# Altium schematic symbol library MPU6050_SCHLIB.SchLib: 12 symbols
Pins are listed as number, name and electrical type; pins without a type are passive.

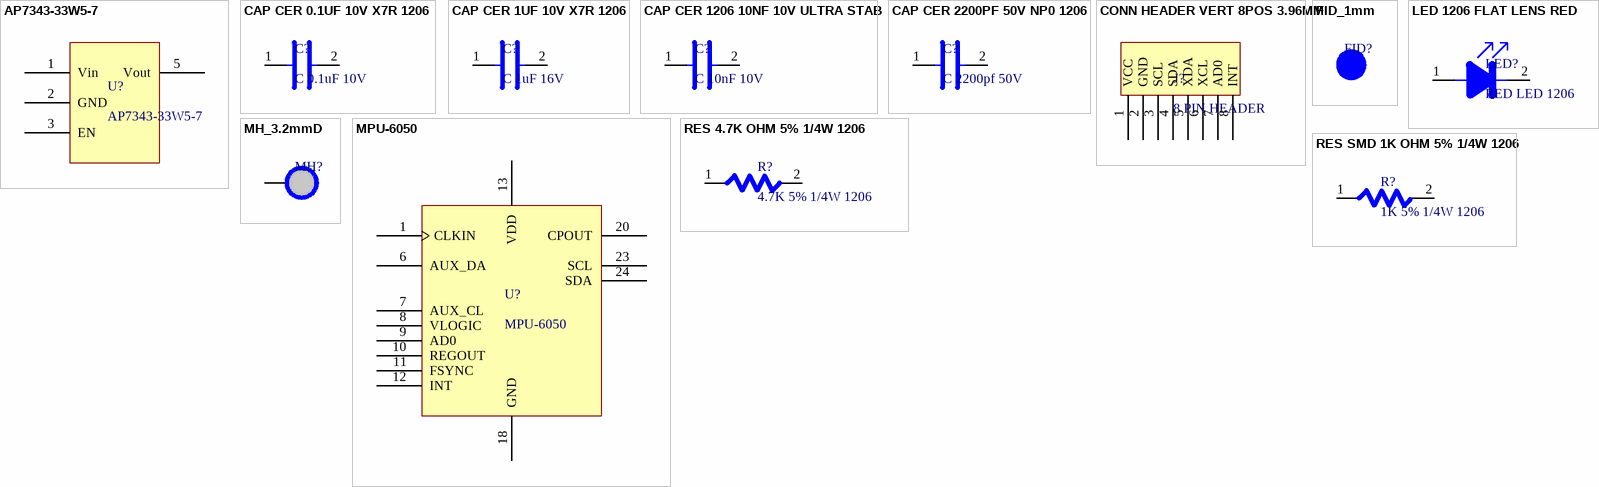
[diagram p0: symbols AP7343-33W5-7 to RES SMD 1K OHM 5% 1/4W 1206]

## AP7343-33W5-7
designator U?
Low dropout regulator with high output voltage. 3.3V 300mA; Manufacturer: DIODES Incorporated; Output: 3.3A 300mA; Package/Case: SC-74A, SOT-753; Supplier: digikey; Supplier Part Number: AP7343-33W5-7DICT-ND; Package: Cinta cortada; Mount: Surface; Datasheet: https://www.diodes.com/assets/Datasheets/AP7343.pdf; Pricing: 1=U$D0.44; 10=U$D0.378; 25=U$D0.353; Manufacturer Part Number: AP7343-33W5-7
footprint AP7343-33W5-7 (SOT25)
pins: 1 Vin "Optional external reference clock input. Connect to GND if unused.", 2 GND "I  2C master serial data, for connecting to external sensors", 3 EN "I  2C Master serial clock, for connecting to external sensors", 5 Vout "Digital I/O supply voltage"

## CAP CER 0.1UF 10V X7R 1206
designator C?, comment C 0.1uF 10V
0.1 µF ±10% 10V Capacitores cerámicos X7R 1206 (3216 métrico); Manufacturer: KEMET; Package/Case: 1206 (3216 métrico); Supplier: digikey; Supplier Part Number: 399-15539-1-ND; Package: Cinta cortada; Mount: Surface; Datasheet: https://connect.kemet.com:7667/gateway/IntelliData-ComponentDocumentation/1.0/download/datasheet/C1206C104K8RACTU; Pricing: 1=U$D0.43; 10=U$D0.296; 50=U$D0.207
footprint CAP CER 0.1UF 10V X7R 1206
pins: 1, 2

## CAP CER 1UF 10V X7R 1206
designator C?, comment C 1uF 16V
1 µF ±10% 10V Capacitores cerámicos X7R 1206 (3216 métrico); Manufacturer: KEMET; Package/Case: 1206 (3216 métrico); Supplier: digikey; Supplier Part Number: 399-13193-1-ND; Package: Cinta cortada; Mount: Surface; Datasheet: https://content.kemet.com/datasheets/KEM_C1002_X7R_SMD.pdf; Pricing: 1=U$D0.78; 10=U$D0.578; 50=U$D0.462
footprint CAP CER 1UF 10V X7R 1206 - duplicate
pins: 1, 2

## CAP CER 1206 10NF 10V ULTRA STAB
designator C?, comment C 10nF 10V
10000 pF ±1% 10V Capacitores cerámicos X8R 1206 (3216 métrico); Manufacturer: KEMET; Package/Case: 1206 (3216 métrico); Supplier: digikey; Supplier Part Number: C1206C103F8HAC7800-ND; Package: Cinta y rollo; Mount: Surface; Datasheet: https://connect.kemet.com:7667/gateway/IntelliData-ComponentDocumentation/1.0/download/datasheet/C1206C103F8HAC7800; Pricing: 4000= U$D 0.143
footprint CAP CER 1206 10NF 10V ULTRA STAB
pins: 1, 2

## CAP CER 2200PF 50V NP0 1206
designator C?, comment C 2200pf 50V
CAP CER 2200PF 50V NP0 1206; Manufacturer: KEMET; Package/Case: 1206 (3216 métrico); Supplier: digikey; Supplier Part Number: 399-C1206C222J5GACAUTOCT-ND; Package: Cinta cortada; Mount: Surface; Datasheet: https://content.kemet.com/datasheets/KEM_C1022_C0G_AUTO_SMD.pdf; Pricing: 1=U$D0.46; 10=U$D0.32; 50=U$D0.22
footprint CAP CER 2200PF 50V NP0 1206
pins: 1, 2

## CONN HEADER VERT 8POS 3.96MM
designator J?, comment 8 PIN HEADER
Cabezal de conector Orificio pasante 8 posiciones 0.156" (3.96mm); Manufacturer: TE Connectivity AMP Connectors; Supplier: digikey; Supplier Part Number: 644749-8-ND; Package: Cinta cortada; Mount: THT; Datasheet: https://www.te.com/commerce/DocumentDelivery/DDEController?Action=srchrtrv&DocNm=644749&DocType=Customer+Drawing&DocLang=English; Pricing: 750=U$D 0.654
footprint CONN HEADER VERT 8POS 3.96MM
pins: 1 VCC, 2 GND, 3 SCL, 4 SDA, 5 XDA, 6 XCL, 7 AD0, 8 INT

## FID_1mm
designator FID?  (value not drawn)  (no BOM)
Fiducial 40mil Diameter, 120mil Mask
footprint FID_40_120

## LED 1206 FLAT LENS RED
designator LED?, comment RED LED 1206
Rojo 630nm Indicación led: discreta 1.5V 1206 (3216 métrico); Manufacturer: Venkel; Package/Case: 1206 (3216 metrica); Supplier: digikey; Supplier Part Number: 2679-CTL1206FRD1TTR-ND; Package: Cinta y rollo; Mount: Surface; Datasheet: https://page.venkel.com/hubfs/Resources/Datasheets/LEDs/CTL1206FRD1T.pdf; Pricing: 3000=U$D 0.061
footprint RED LED 1206
pins: 1, 2

## MH_3.2mmD
designator MH?  (value not drawn)  (no BOM)
MH 7..4mmD 3.2mmDrill Non plated
footprint MH 7.4mmD 3.2mmDirll No plated
pins: 1

## MPU-6050
designator U?
Acelerometer, gyro, 6 axis; Manufacturer: TDK InvenSense; Package/Case: Módulo 24-VFQFN, Placa descubierta; Supplier: digikey; Supplier Part Number: 1428-1007-1-ND; Package: Cinta cortada; Mount: Surface; Datasheet: https://invensense.tdk.com/wp-content/uploads/2015/02/MPU-6000-Datasheet1.pdf; Pricing: 1=U$D9.11; 5=U$D7.99; 10=U$D7.19; 25=U$D6.39
footprint MPU6050 (24 Lead QFN (4x4x0.9) mm NiPdAu Lead-frame finish)
pins: 1 CLKIN "Optional external reference clock input. Connect to GND if unused.", 6 AUX_DA "I  2C master serial data, for connecting to external sensors", 7 AUX_CL "I  2C Master serial clock, for connecting to external sensors", 8 VLOGIC "Digital I/O supply voltage", 9 AD0 "I  2C Slave Address LSB (AD0)", 10 REGOUT "Regulator filter capacitor connection", 11 FSYNC "Frame synchronization digital input. Connect to GND if unused.", 12 INT "Interrupt digital output (totem pole or open-drain)", 13 VDD "Power supply voltage and Digital I/O supply voltage", 18 GND "Power supply ground", 20 CPOUT "Charge pump capacitor connection", 23 SCL "I  2C serial clock (SCL); SPI serial clock (SCLK)", 24 SDA "2C serial data (SDA)"

## RES 4.7K OHM 5% 1/4W 1206
designator R?, comment 4.7K 5% 1/4W 1206
4.7 kOhms ±5% 0.25W, 1/4W Resistencia en microprocesador 1206 (3216 métrico) Resistente a la humedad Película gruesa; Manufacturer: Yageo; Package/Case: 1206 (3216 metrica); Supplier: digikey; Supplier Part Number: 311-4.7KERCT-ND; Package: Cinta cortada; Mount: Surface; Datasheet: https://www.yageo.com/upload/media/product/productsearch/datasheet/rchip/PYu-RC_51_RoHS_P_2.pdf; Pricing: 1=U$D0.1; 10=U$D0.063; 100=U$D0.0258
footprint RES SMD 4.7K OHM 5% 1/4W 1206
pins: 1, 2

## RES SMD 1K OHM 5% 1/4W 1206
designator R?, comment 1K 5% 1/4W 1206
1 kOhms ±5% 0.25W, 1/4W Resistencia en microprocesador 1206 (3216 métrico) - Película gruesa; Manufacturer: Yageo; Package/Case: 1206 (3216 metrica); Supplier: digikey; Supplier Part Number: YAG1341CT-ND; Package: Cinta cortada; Mount: Surface; Datasheet: https://www.yageo.com/upload/media/product/productsearch/datasheet/rchip/PYu-RC_51_RoHS_P_2.pdf; Pricing: 1=U$D0.13; 10=U$D0.114; 100=U$D0.0439
footprint RES SMD 1K OHM 5% 1/4W 1206
pins: 1, 2